# Altium schematic symbol library Crydom_CX240D5.SchLib: 1 symbol
Pins are listed as number, name and electrical type; pins without a type are passive.

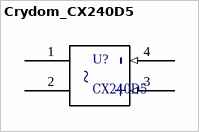
[diagram p0: symbol ‎Crydom_CX240D5‎ ]

## ‎Crydom_CX240D5‎ 
designator U?, comment CX240D5‎
Solid State Relay; PartDescription: SSR RELAY SPST-NO 5A 12-280V; Manufacturer: Sensata-Crydom; Supplier 1: Digi-Key; Supplier Part Number 1: CC1063-ND; PartNumber: CX240D5; Package Type: 4 TH
footprint Crydom_CX240D5
pins: 1 (power), 2 (power), 3 (in), 4 (in)
text: -; ~; +